# Altium schematic symbol library CF14JT100K.SchLib: 1 symbol
Pins are listed as number, name and electrical type; pins without a type are passive.

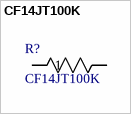
[diagram p0: symbol CF14JT100K]

## CF14JT100K
designator R?
Description; Manufacturer_Name: Stackpole International; Copyright: Copyright (C) 2025 Ultra Librarian. All rights reserved.; Manufacturer_Part_Number: CF14JT100K
footprint STA_CF14_STP
pins: 1, 2